# EAGLE library part ICM-20948 (library CustomParts)
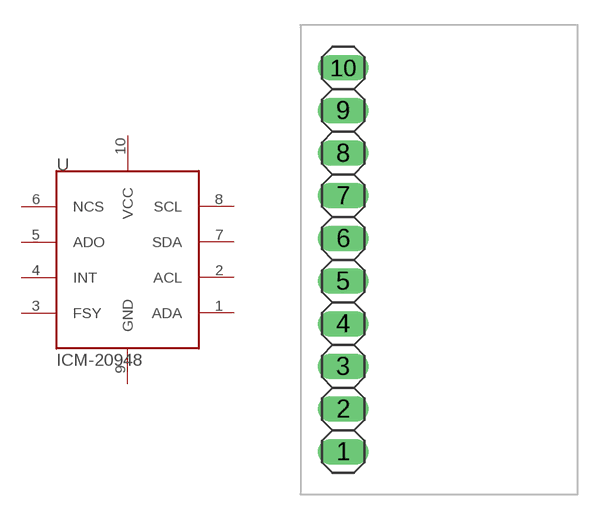
[diagram p6: symbol with the pads of ICM-20948-BOARD; footprint ICM-20948-BOARD]

Designator prefix -

## ICM-20948  [ICM-20948-BOARD]
1  ADA
2  ACL
3  FSY
4  INT
5  ADO
6  NCS
7  SDA
8  SCL
9  GND
10  VCC  pwr

## Footprint ICM-20948-BOARD (pad centres in mm)
PIN HEADER
drill 1.016 long: 1 0,-11.43; 2 0,-8.89; 3 0,-6.35; 4 0,-3.81; 5 0,-1.27; 6 0,1.27; 7 0,3.81; 8 0,6.35; 9 0,8.89; 10 0,11.43